# EAGLE library part OPTO_2/1 (library ZMPLC)
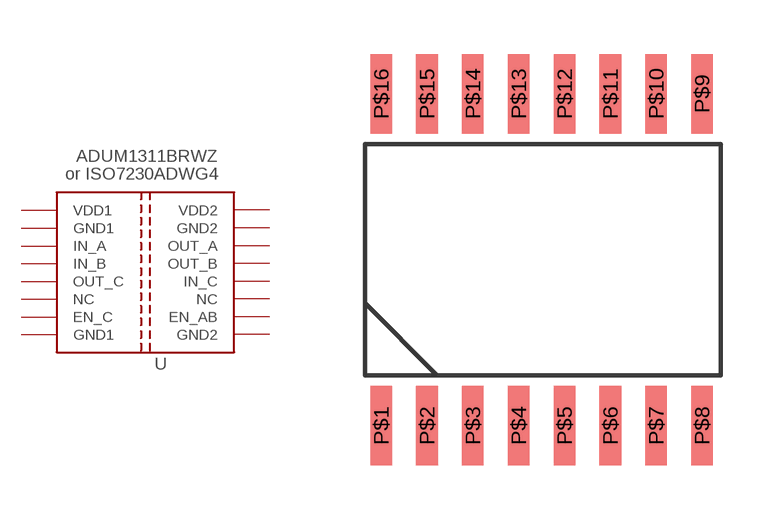
[diagram p15: symbol with the pads of SOIC16_W; footprint SOIC16_W]

Designator prefix -

## OPTO_2/1  [SOIC16_W]
P$1  VDD1  pwr
P$2  GND1  pwr
P$3  IN_A  in
P$4  IN_B  in
P$5  OUT_C  out
P$6  NC  nc
P$7  EN_C  in
P$8  GND1  pwr
P$9  GND2  pwr
P$10  EN_AB  in
P$11  NC  nc
P$12  IN_C  in
P$13  OUT_B  out
P$14  OUT_A  out
P$15  GND2  pwr
P$16  VDD2  pwr

## Footprint SOIC16_W (pad centres in mm)
smd 0.6 x 2.2: P$1 -5.715,-4.755; P$2 -4.445,-4.755; P$3 -3.175,-4.755; P$4 -1.905,-4.755; P$5 -0.635,-4.755; P$6 0.635,-4.755; P$7 1.905,-4.755; P$8 3.175,-4.755; P$9 3.175,4.445; P$10 1.905,4.445; P$11 0.635,4.445; P$12 -0.635,4.445; P$13 -1.905,4.445; P$14 -3.175,4.445; P$15 -4.445,4.445; P$16 -5.715,4.445